# EAGLE library part LT1991 (library di_ic)
Linear LT1991 Precision, 100uA Gain Selectable Amplifier http://cds.linear.com/docs/Datasheet/1991fg.pdf
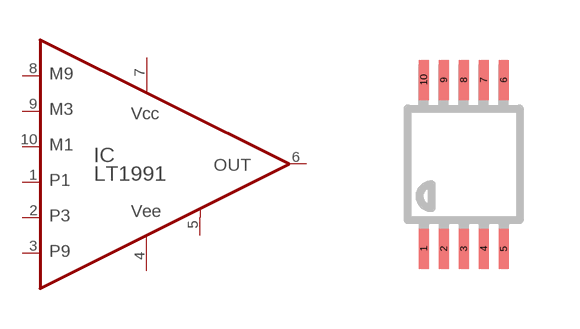
[diagram p15: symbol with the pads of MSOP10; footprint MSOP10]

Designator prefix IC

## LT1991  [MSOP10]
1  P1  pas
2  P3  pas
3  P9  pas
4  -VS  pwr
5  REF  pas
6  OUT  out
7  +VS  pwr
8  M9  pas
9  M3  pas
10  M1  pas

## Footprint MSOP10 (pad centres in mm)
10-Lead Mini Small Outline Package [MSOP] (RM-10) Source: http://www.analog.com/UploadedFiles/Data_Sheets/35641221898805SSM2167_b.pdf COMPLIANT TO JEDEC STANDARDS MO-187BA
smd 0.25 x 1: 1 -1,-2.113; 2 -0.5,-2.113; 3 0,-2.113; 4 0.5,-2.113; 5 1,-2.113; 6 1,2.113; 7 0.5,2.113; 8 0,2.113; 9 -0.5,2.113; 10 -1,2.113